# EAGLE library part TPA6130A2RTJT (library TPA6130A2RTJT)
Texas Instruments TPA6130A2RTJT Headphone Audio Amplifier, Class-AB Mono/Stereo 68dB, 20-Pin QFN Source: Datasheet <http://www.ti.com/lit/ds/symlink/tpa6130a2.pdf>
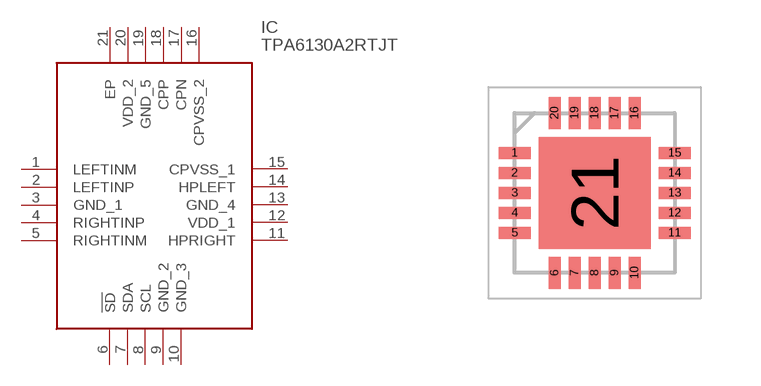
[diagram p0: symbol with the pads of QFN50P400X400X80-21N; footprint QFN50P400X400X80-21N]

Designator prefix IC

## TPA6130A2RTJT (Arrow_Part_Number: TPA6130A2RTJT; Arrow_Price-Stock: https://www.arrow.com/en/products/tpa6130a2rtjt/texas-instruments; Description: Texas Instruments TPA6130A2RTJT Headphone Audio Amplifier, Class-AB Mono/Stereo 68dB, 20-Pin QFN; Height: 0.8mm; Manufacturer_Name: Texas Instruments; Manufacturer_Part_Number: TPA6130A2RTJT; Mouser_Part_Number: 595-TPA6130A2RTJT; Mouser_Price-Stock: https://www.mouser.co.uk/ProductDetail/Texas-Instruments/TPA6130A2RTJT?qs=7kv20MEVUlhbnsEmMhzkWg%3D%3D)  [QFN50P400X400X80-21N]
1  LEFTINM
2  LEFTINP
3  GND_1
4  RIGHTINP
5  RIGHTINM
6  !SD
7  SDA
8  SCL
9  GND_2
10  GND_3
11  HPRIGHT
12  VDD_1
13  GND_4
14  HPLEFT
15  CPVSS_1
16  CPVSS_2
17  CPN
18  CPP
19  GND_5
20  VDD_2
21  EP

## Footprint QFN50P400X400X80-21N (pad centres in mm)
RTJ (S-PWQFN-N20)_1
smd 0.8 x 0.3: 1 -2,1; 2 -2,0.5; 3 -2,0; 4 -2,-0.5; 5 -2,-1; 11 2,-1; 12 2,-0.5; 13 2,0; 14 2,0.5; 15 2,1
smd 0.3 x 0.8: 6 -1,-2; 7 -0.5,-2; 8 0,-2; 9 0.5,-2; 10 1,-2; 16 1,2; 17 0.5,2; 18 0,2; 19 -0.5,2; 20 -1,2
smd 2.8 x 2.8: 21 0,0